# Altium schematic symbol library MEMORY_Test.SchLib: 2 symbols
Pins are listed as number, name and electrical type; pins without a type are passive.

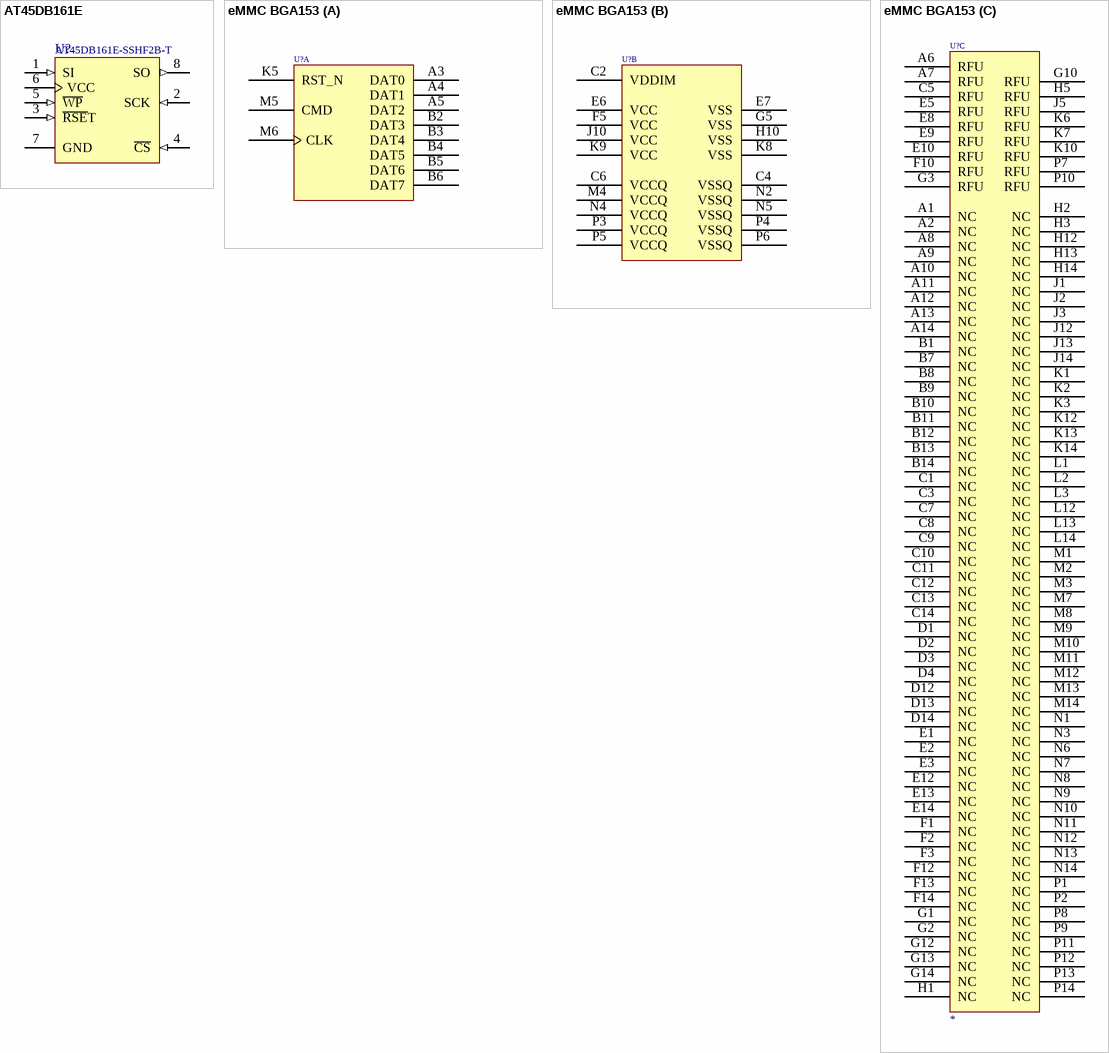
[diagram p0: symbols AT45DB161E to eMMC BGA153]

## AT45DB161E
designator U?  Manufacturer Part Number 1: AT45DB161E-SSHF2B-T  (hidden comment: AT45DB161E)
IC FLASH 16MBIT 85MHZ 8SOIC; Manufacturer 1: Adesto Technologies; Max Frequency: 70MHz; Memory Size: 512B; Memory Type: NOR,FLASH,DataFLASH; Max Supply Current: 22mA; Data Bus Width: 8b; Access Time: 7ns; Interface: SPI,Serial; Max Supply Voltage: 3.6V; Min Supply Voltage: 2.3V; Density: 16Mb; Supplier 1: Digi-Key; RoHS: Yes; Category: Memory; Stock 1: 2075; Pricing 1: 1=2.51000, 10=2.25400, 25=2.21880, 50=2.21280, 100=1.97720, 250=1.91296, 500=1.90582, 1000=1.77496 (USD); Mount: Surface Mount; Case/Package: SOIC; Number of Pins: 8; Contact Plating: Gold; Min Operating Temperature: -40°C; Max Operating Temperature: 85°C; Frequency: 85MHz; Packaging: Tape and Reel; Package Quantity: 4000; Page Size: 512B; ComponentLink1URL: http://www.mouser.com/ds/2/590/doc8782-531532.pdf?src-supplier=Mouser; ComponentLink1Description: http://www.mouser.com/ds/2/590/doc8782-531532.pdf?src-supplier=Mouser; ComponentLink2URL: http://components.arrow.com/part/dataview/0323_07206422?src-supplier=Arrow+Europe; ComponentLink2Description: http://components.arrow.com/part/dataview/0323_07206422?src-supplier=Arrow+Europe; ComponentLink3URL: http://www.adestotech.com/wp-content/uploads/doc8782.pdf?src-supplier=Digi-Key; ComponentLink3Description: http://www.adestotech.com/wp-content/uploads/doc8782.pdf?src-supplier=Digi-Key; ComponentLink4URL: https://www.adestotech.com/wp-content/uploads/doc8782.pdf?src-supplier=Avnet; ComponentLink4Description: https://www.adestotech.com/wp-content/uploads/doc8782.pdf?src-supplier=Avnet; Supplier Part Number 1: 1265-1041-1-ND
footprint NSO8_N (SOIC, 8-Leads, Body 4.9x3.9mm, Pitch 1.27mm, IPC Medium Density)
pins: 1 SI (in), 2 SCK (in), 3 ~{RSE}T (in), 4 ~{CS} (in), 5 ~{WP} (in), 6 VCC (power), 7 GND (power), 8 SO (out)

## eMMC BGA153
designator U?
Manufacturer Part Number: *
part A pins: A3 DAT0 "Data I/O: These are bidirectional data signals. The DAT signals operate in push-pull mode. By default, after power-on or assertion of the RST_n signal, only DAT0 is used for data transfer. The MMC controller can configure a (See Datasheet)", A4 DAT1 "Data I/O: These are bidirectional data signals. The DAT signals operate in push-pull mode. By default, after power-on or assertion of the RST_n signal, only DAT0 is used for data transfer. The MMC controller can configure a (See Datasheet)", A5 DAT2 "Data I/O: These are bidirectional data signals. The DAT signals operate in push-pull mode. By default, after power-on or assertion of the RST_n signal, only DAT0 is used for data transfer. The MMC controller can configure a (See Datasheet)", B2 DAT3 "Data I/O: These are bidirectional data signals. The DAT signals operate in push-pull mode. By default, after power-on or assertion of the RST_n signal, only DAT0 is used for data transfer. The MMC controller can configure a (See Datasheet)", B3 DAT4 "Data I/O: These are bidirectional data signals. The DAT signals operate in push-pull mode. By default, after power-on or assertion of the RST_n signal, only DAT0 is used for data transfer. The MMC controller can configure a (See Datasheet)", B4 DAT5 "Data I/O: These are bidirectional data signals. The DAT signals operate in push-pull mode. By default, after power-on or assertion of the RST_n signal, only DAT0 is used for data transfer. The MMC controller can configure a (See Datasheet)", B5 DAT6 "Data I/O: These are bidirectional data signals. The DAT signals operate in push-pull mode. By default, after power-on or assertion of the RST_n signal, only DAT0 is used for data transfer. The MMC controller can configure a (See Datasheet)", B6 DAT7 "Data I/O: These are bidirectional data signals. The DAT signals operate in push-pull mode. By default, after power-on or assertion of the RST_n signal, only DAT0 is used for data transfer. The MMC controller can configure a (See Datasheet)", K5 RST_N "Reset: The RST_n signal is used by the host for resetting the device, moving the device to the preidle state. By default, the RST_n signal is temporarily disabled in the device. The host must set ECSD register byte 162, (See Datasheet)", M5 CMD "Command: This signal is a bidirectional command channel used for command and response transfers. The CMD signal has two bus modes: open-drain mode and push-pull mode (see Operating Modes). Commands are sent from the MMC host (See Datasheet)", M6 CLK "Clock: Each cycle of the clock directs a transfer on the command line and on the data line(s). The frequency can vary between the minimum and the maximum clock frequency."
part B pins: C2 VDDIM "Internal voltage node: At least a 0.1uF capacitor is required to connect VDDIM to ground. A 1uF capacitor is recommended. Do not tie to supply voltage or ground.", C4 VSSQ "VSSQ: e·MMC controller core and e·MMC I/F ground connection.", C6 VCCQ "VCCQ: e·MMC controller core and e·MMC I/F I/O power supply.", E6 VCC "VCC: NAND interface (I/F) I/O and NAND Flash power supply.", E7 VSS "VSS: NAND I/F I/O and NAND Flash ground connection.", F5 VCC "VCC: NAND interface (I/F) I/O and NAND Flash power supply.", G5 VSS "VSS: NAND I/F I/O and NAND Flash ground connection.", H10 VSS "VSS: NAND I/F I/O and NAND Flash ground connection.", J10 VCC "VCC: NAND interface (I/F) I/O and NAND Flash power supply.", K8 VSS "VSS: NAND I/F I/O and NAND Flash ground connection.", K9 VCC "VCC: NAND interface (I/F) I/O and NAND Flash power supply.", M4 VCCQ "VCCQ: e·MMC controller core and e·MMC I/F I/O power supply.", N2 VSSQ "VSSQ: e·MMC controller core and e·MMC I/F ground connection.", N4 VCCQ "VCCQ: e·MMC controller core and e·MMC I/F I/O power supply.", N5 VSSQ "VSSQ: e·MMC controller core and e·MMC I/F ground connection.", P3 VCCQ "VCCQ: e·MMC controller core and e·MMC I/F I/O power supply.", P4 VSSQ "VSSQ: e·MMC controller core and e·MMC I/F ground connection.", P5 VCCQ "VCCQ: e·MMC controller core and e·MMC I/F I/O power supply.", P6 VSSQ "VSSQ: e·MMC controller core and e·MMC I/F ground connection."
part C pins: A1 NC "No connect: No internal connection is present.", A2 NC "No connect: No internal connection is present.", A6 RFU "Reserved for future use: No internal connection is present. Leave it floating externally.", A7 RFU "Reserved for future use: No internal connection is present. Leave it floating externally.", A8 NC "No connect: No internal connection is present.", A9 NC "No connect: No internal connection is present.", A10 NC "No connect: No internal connection is present.", A11 NC "No connect: No internal connection is present.", A12 NC "No connect: No internal connection is present.", A13 NC "No connect: No internal connection is present.", A14 NC "No connect: No internal connection is present.", B1 NC "No connect: No internal connection is present.", B7 NC "No connect: No internal connection is present.", B8 NC "No connect: No internal connection is present.", B9 NC "No connect: No internal connection is present.", B10 NC "No connect: No internal connection is present.", B11 NC "No connect: No internal connection is present.", B12 NC "No connect: No internal connection is present.", B13 NC "No connect: No internal connection is present.", B14 NC "No connect: No internal connection is present.", C1 NC "No connect: No internal connection is present.", C3 NC "No connect: No internal connection is present.", C5 RFU "Reserved for future use: No internal connection is present. Leave it floating externally.", C7 NC "No connect: No internal connection is present.", C8 NC "No connect: No internal connection is present.", C9 NC "No connect: No internal connection is present.", C10 NC "No connect: No internal connection is present.", C11 NC "No connect: No internal connection is present.", C12 NC "No connect: No internal connection is present.", C13 NC "No connect: No internal connection is present.", C14 NC "No connect: No internal connection is present.", D1 NC "No connect: No internal connection is present.", D2 NC "No connect: No internal connection is present.", D3 NC "No connect: No internal connection is present.", D4 NC "No connect: No internal connection is present.", D12 NC "No connect: No internal connection is present.", D13 NC "No connect: No internal connection is present.", D14 NC "No connect: No internal connection is present.", E1 NC "No connect: No internal connection is present.", E2 NC "No connect: No internal connection is present.", E3 NC "No connect: No internal connection is present.", E5 RFU "Reserved for future use: No internal connection is present. Leave it floating externally.", E8 RFU "Reserved for future use: No internal connection is present. Leave it floating externally.", E9 RFU "Reserved for future use: No internal connection is present. Leave it floating externally.", E10 RFU "Reserved for future use: No internal connection is present. Leave it floating externally.", E12 NC "No connect: No internal connection is present.", E13 NC "No connect: No internal connection is present.", E14 NC "No connect: No internal connection is present.", F1 NC "No connect: No internal connection is present.", F2 NC "No connect: No internal connection is present.", F3 NC "No connect: No internal connection is present.", F10 RFU "Reserved for future use: No internal connection is present. Leave it floating externally.", F12 NC "No connect: No internal connection is present.", F13 NC "No connect: No internal connection is present.", F14 NC "No connect: No internal connection is present.", G1 NC "No connect: No internal connection is present.", G2 NC "No connect: No internal connection is present.", G3 RFU "Reserved for future use: No internal connection is present. Leave it floating externally.", G10 RFU "Reserved for future use: No internal connection is present. Leave it floating externally.", G12 NC "No connect: No internal connection is present.", G13 NC "No connect: No internal connection is present.", G14 NC "No connect: No internal connection is present.", H1 NC "No connect: No internal connection is present.", H2 NC "No connect: No internal connection is present.", H3 NC "No connect: No internal connection is present.", H5 RFU "Reserved for future use: No internal connection is present. Leave it floating externally.", H12 NC "No connect: No internal connection is present.", H13 NC "No connect: No internal connection is present.", H14 NC "No connect: No internal connection is present.", J1 NC "No connect: No internal connection is present.", J2 NC "No connect: No internal connection is present.", J3 NC "No connect: No internal connection is present.", J5 RFU "Reserved for future use: No internal connection is present. Leave it floating externally.", J12 NC "No connect: No internal connection is present.", J13 NC "No connect: No internal connection is present.", J14 NC "No connect: No internal connection is present.", K1 NC "No connect: No internal connection is present.", K2 NC "No connect: No internal connection is present.", K3 NC "No connect: No internal connection is present.", K6 RFU "Reserved for future use: No internal connection is present. Leave it floating externally.", K7 RFU "Reserved for future use: No internal connection is present. Leave it floating externally.", K10 RFU "Reserved for future use: No internal connection is present. Leave it floating externally.", K12 NC "No connect: No internal connection is present.", K13 NC "No connect: No internal connection is present.", K14 NC "No connect: No internal connection is present.", L1 NC "No connect: No internal connection is present.", L2 NC "No connect: No internal connection is present.", L3 NC "No connect: No internal connection is present.", L12 NC "No connect: No internal connection is present.", L13 NC "No connect: No internal connection is present.", L14 NC "No connect: No internal connection is present.", M1 NC "No connect: No internal connection is present.", M2 NC "No connect: No internal connection is present.", M3 NC "No connect: No internal connection is present.", M7 NC "No connect: No internal connection is present.", M8 NC "No connect: No internal connection is present.", M9 NC "No connect: No internal connection is present.", M10 NC "No connect: No internal connection is present.", M11 NC "No connect: No internal connection is present.", M12 NC "No connect: No internal connection is present.", M13 NC "No connect: No internal connection is present.", M14 NC "No connect: No internal connection is present.", N1 NC "No connect: No internal connection is present.", N3 NC "No connect: No internal connection is present.", N6 NC "No connect: No internal connection is present.", N7 NC "No connect: No internal connection is present.", N8 NC "No connect: No internal connection is present.", N9 NC "No connect: No internal connection is present.", N10 NC "No connect: No internal connection is present.", N11 NC "No connect: No internal connection is present.", N12 NC "No connect: No internal connection is present.", N13 NC "No connect: No internal connection is present.", N14 NC "No connect: No internal connection is present.", P1 NC "No connect: No internal connection is present.", P2 NC "No connect: No internal connection is present.", P7 RFU "Reserved for future use: No internal connection is present. Leave it floating externally.", P8 NC "No connect: No internal connection is present.", P9 NC "No connect: No internal connection is present.", P10 RFU "Reserved for future use: No internal connection is present. Leave it floating externally.", P11 NC "No connect: No internal connection is present.", P12 NC "No connect: No internal connection is present.", P13 NC "No connect: No internal connection is present.", P14 NC "No connect: No internal connection is present."